# EAGLE library part XCV100_FG256 (library xilinx-xcv)
xcv100_fg256 edit this description Auto generated by make-symbol-device-package-bsdl.ulp Rev. 26 Source: xcv100_fg256.bsd
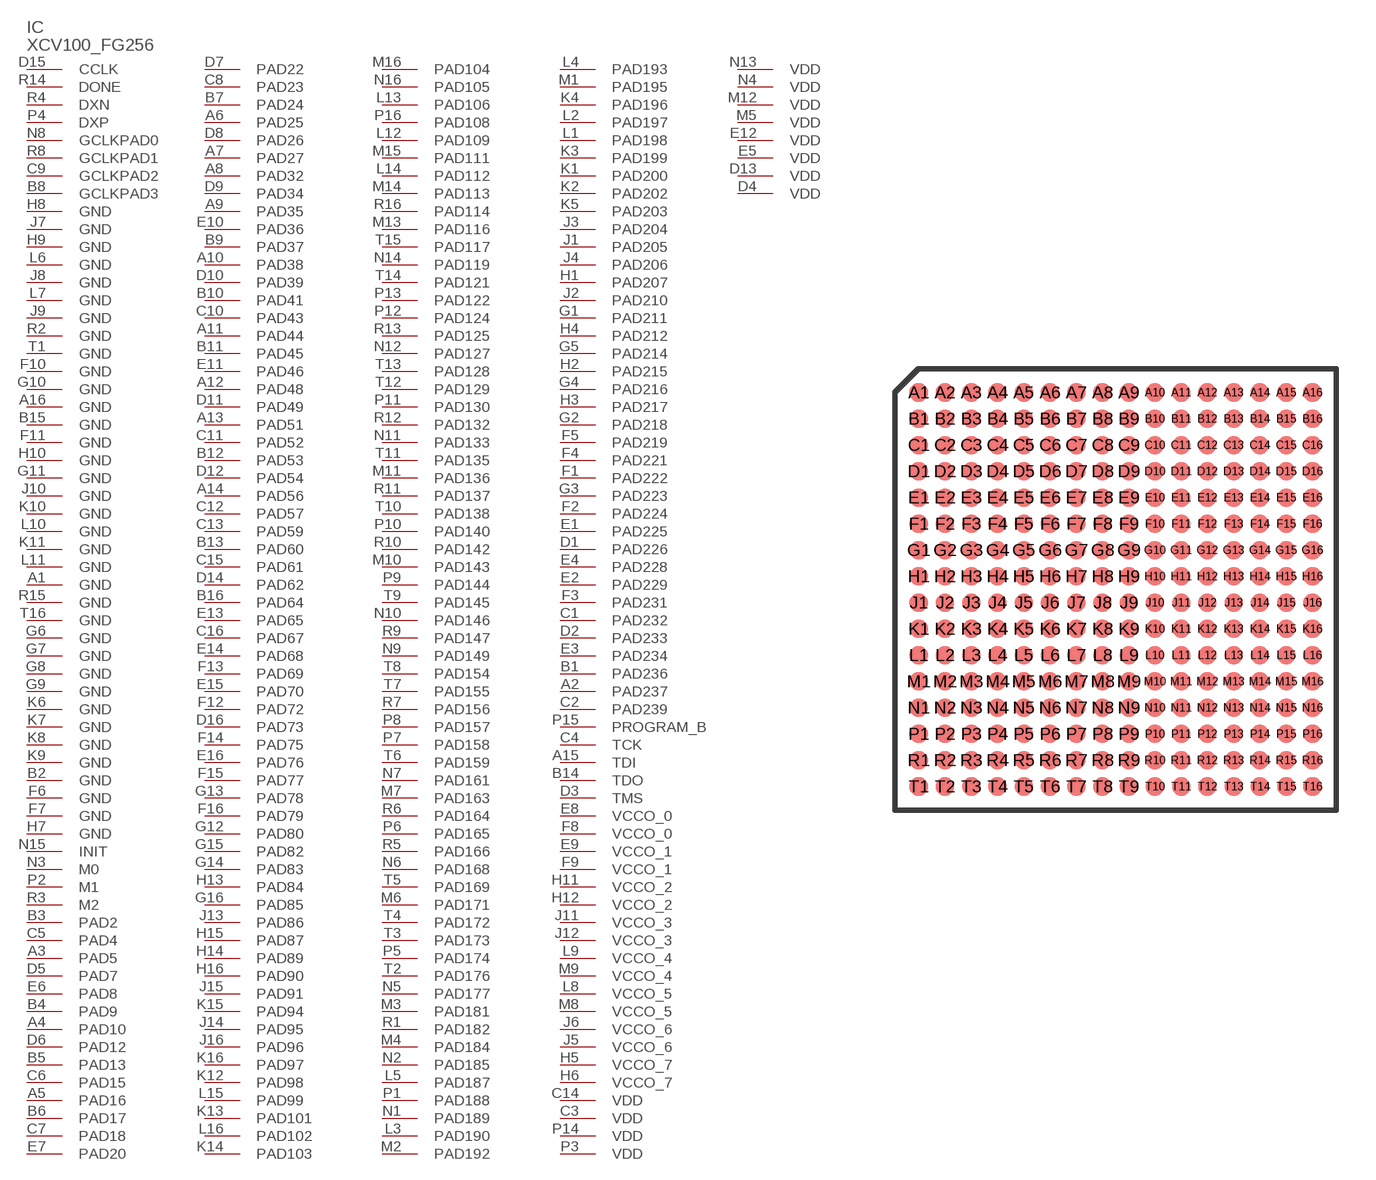
[diagram p2: symbol with the pads of FG256; footprint FG256]

Designator prefix IC

## XCV100_FG256  [FG256]
A1  GND  pwr
A2  PAD237
A3  PAD5
A4  PAD10
A5  PAD16
A6  PAD25
A7  PAD27
A8  PAD32
A9  PAD35
A10  PAD38
A11  PAD44
A12  PAD48
A13  PAD51
A14  PAD56
A15  TDI  in
A16  GND  pwr
B1  PAD236
B2  GND  pwr
B3  PAD2
B4  PAD9
B5  PAD13
B6  PAD17
B7  PAD24
B8  GCLKPAD3  in
B9  PAD37
B10  PAD41
B11  PAD45
B12  PAD53
B13  PAD60
B14  TDO  out
B15  GND  pwr
B16  PAD64
C1  PAD232
C2  PAD239
C3  VDD  pwr
C4  TCK  in
C5  PAD4
C6  PAD15
C7  PAD18
C8  PAD23
C9  GCLKPAD2  in
C10  PAD43
C11  PAD52
C12  PAD57
C13  PAD59
C14  VDD  pwr
C15  PAD61
C16  PAD67
D1  PAD226
D2  PAD233
D3  TMS  in
D4  VDD  pwr
D5  PAD7
D6  PAD12
D7  PAD22
D8  PAD26
D9  PAD34
D10  PAD39
D11  PAD49
D12  PAD54
D13  VDD  pwr
D14  PAD62
D15  CCLK
D16  PAD73
E1  PAD225
E2  PAD229
E3  PAD234
E4  PAD228
E5  VDD  pwr
E6  PAD8
E7  PAD20
E8  VCCO_0  pwr
E9  VCCO_1  pwr
E10  PAD36
E11  PAD46
E12  VDD  pwr
E13  PAD65
E14  PAD68
E15  PAD70
E16  PAD76
F1  PAD222
F2  PAD224
F3  PAD231
F4  PAD221
F5  PAD219
F6  GND  pwr
F7  GND  pwr
F8  VCCO_0  pwr
F9  VCCO_1  pwr
F10  GND  pwr
F11  GND  pwr
F12  PAD72
F13  PAD69
F14  PAD75
F15  PAD77
F16  PAD79
G1  PAD211
G2  PAD218
G3  PAD223
G4  PAD216
G5  PAD214
G6  GND  pwr
G7  GND  pwr
G8  GND  pwr
G9  GND  pwr
G10  GND  pwr
G11  GND  pwr
G12  PAD80
G13  PAD78
G14  PAD83
G15  PAD82
G16  PAD85
H1  PAD207
H2  PAD215
H3  PAD217
H4  PAD212
H5  VCCO_7  pwr
H6  VCCO_7  pwr
H7  GND  pwr
H8  GND  pwr
H9  GND  pwr
H10  GND  pwr
H11  VCCO_2  pwr
H12  VCCO_2  pwr
H13  PAD84
H14  PAD89
H15  PAD87
H16  PAD90
J1  PAD205
J2  PAD210
J3  PAD204
J4  PAD206
J5  VCCO_6  pwr
J6  VCCO_6  pwr
J7  GND  pwr
J8  GND  pwr
J9  GND  pwr
J10  GND  pwr
J11  VCCO_3  pwr
J12  VCCO_3  pwr
J13  PAD86
J14  PAD95
J15  PAD91
J16  PAD96
K1  PAD200
K2  PAD202
K3  PAD199
K4  PAD196
K5  PAD203
K6  GND  pwr
K7  GND  pwr
K8  GND  pwr
K9  GND  pwr
K10  GND  pwr
K11  GND  pwr
K12  PAD98
K13  PAD101
K14  PAD103
K15  PAD94
K16  PAD97
L1  PAD198
L2  PAD197
L3  PAD190
L4  PAD193
L5  PAD187
L6  GND  pwr
L7  GND  pwr
L8  VCCO_5  pwr
L9  VCCO_4  pwr
L10  GND  pwr
L11  GND  pwr
L12  PAD109
L13  PAD106
L14  PAD112
L15  PAD99
L16  PAD102
M1  PAD195
M2  PAD192
M3  PAD181
M4  PAD184
M5  VDD  pwr
M6  PAD171
M7  PAD163
M8  VCCO_5  pwr
M9  VCCO_4  pwr
M10  PAD143
M11  PAD136
M12  VDD  pwr
M13  PAD116
M14  PAD113
M15  PAD111
M16  PAD104
N1  PAD189
N2  PAD185
N3  M0  in
N4  VDD  pwr
N5  PAD177
N6  PAD168
N7  PAD161
N8  GCLKPAD0  in
N9  PAD149
N10  PAD146
N11  PAD133
N12  PAD127
N13  VDD  pwr
N14  PAD119
N15  INIT
N16  PAD105
P1  PAD188
P2  M1  in
P3  VDD  pwr
P4  DXP  pas
P5  PAD174
P6  PAD165
P7  PAD158
P8  PAD157
P9  PAD144
P10  PAD140
P11  PAD130
P12  PAD124
P13  PAD122
P14  VDD  pwr
P15  PROGRAM_B  in
P16  PAD108
R1  PAD182
R2  GND  pwr
R3  M2  in
R4  DXN  pas
R5  PAD166
R6  PAD164
R7  PAD156
R8  GCLKPAD1  in
R9  PAD147
R10  PAD142
R11  PAD137
R12  PAD132
R13  PAD125
R14  DONE
R15  GND  pwr
R16  PAD114
T1  GND  pwr
T2  PAD176
T3  PAD173
T4  PAD172
T5  PAD169
T6  PAD159
T7  PAD155
T8  PAD154
T9  PAD145
T10  PAD138
T11  PAD135
T12  PAD129
T13  PAD128
T14  PAD121
T15  PAD117
T16  GND  pwr

## Footprint FG256 (pad centres in mm)
Fine Pitch BGA (FG256) Auto generated by make-symbol-device-package-bsdl.ulp Rev. 26 Source: xcv100_fg256.bsd; fg256.pdf
smd 0.7 x 0.7: A1 -7.5,7.5; A2 -6.5,7.5; A3 -5.5,7.5; A4 -4.5,7.5; A5 -3.5,7.5; A6 -2.5,7.5; A7 -1.5,7.5; A8 -0.5,7.5; A9 0.5,7.5; A10 1.5,7.5; A11 2.5,7.5; A12 3.5,7.5; A13 4.5,7.5; A14 5.5,7.5; A15 6.5,7.5; A16 7.5,7.5; B1 -7.5,6.5; B2 -6.5,6.5; B3 -5.5,6.5; B4 -4.5,6.5; B5 -3.5,6.5; B6 -2.5,6.5; B7 -1.5,6.5; B8 -0.5,6.5; B9 0.5,6.5; B10 1.5,6.5; B11 2.5,6.5; B12 3.5,6.5; B13 4.5,6.5; B14 5.5,6.5; B15 6.5,6.5; B16 7.5,6.5; C1 -7.5,5.5; C2 -6.5,5.5; C3 -5.5,5.5; C4 -4.5,5.5; C5 -3.5,5.5; C6 -2.5,5.5; C7 -1.5,5.5; C8 -0.5,5.5; C9 0.5,5.5; C10 1.5,5.5; C11 2.5,5.5; C12 3.5,5.5; C13 4.5,5.5; C14 5.5,5.5; C15 6.5,5.5; C16 7.5,5.5; D1 -7.5,4.5; D2 -6.5,4.5; D3 -5.5,4.5; D4 -4.5,4.5; D5 -3.5,4.5; D6 -2.5,4.5; D7 -1.5,4.5; D8 -0.5,4.5; D9 0.5,4.5; D10 1.5,4.5; D11 2.5,4.5; D12 3.5,4.5; D13 4.5,4.5; D14 5.5,4.5; D15 6.5,4.5; D16 7.5,4.5; E1 -7.5,3.5; E2 -6.5,3.5; E3 -5.5,3.5; E4 -4.5,3.5; E5 -3.5,3.5; E6 -2.5,3.5; E7 -1.5,3.5; E8 -0.5,3.5; E9 0.5,3.5; E10 1.5,3.5; E11 2.5,3.5; E12 3.5,3.5; E13 4.5,3.5; E14 5.5,3.5; E15 6.5,3.5; E16 7.5,3.5; F1 -7.5,2.5; F2 -6.5,2.5; F3 -5.5,2.5; F4 -4.5,2.5; F5 -3.5,2.5; F6 -2.5,2.5; F7 -1.5,2.5; F8 -0.5,2.5; F9 0.5,2.5; F10 1.5,2.5; F11 2.5,2.5; F12 3.5,2.5; F13 4.5,2.5; F14 5.5,2.5; F15 6.5,2.5; F16 7.5,2.5; G1 -7.5,1.5; G2 -6.5,1.5; G3 -5.5,1.5; G4 -4.5,1.5; G5 -3.5,1.5; G6 -2.5,1.5; G7 -1.5,1.5; G8 -0.5,1.5; G9 0.5,1.5; G10 1.5,1.5; G11 2.5,1.5; G12 3.5,1.5; G13 4.5,1.5; G14 5.5,1.5; G15 6.5,1.5; G16 7.5,1.5; H1 -7.5,0.5; H2 -6.5,0.5; H3 -5.5,0.5; H4 -4.5,0.5; H5 -3.5,0.5; H6 -2.5,0.5; H7 -1.5,0.5; H8 -0.5,0.5; H9 0.5,0.5; H10 1.5,0.5; H11 2.5,0.5; H12 3.5,0.5; H13 4.5,0.5; H14 5.5,0.5; H15 6.5,0.5; H16 7.5,0.5; J1 -7.5,-0.5; J2 -6.5,-0.5; J3 -5.5,-0.5; J4 -4.5,-0.5; J5 -3.5,-0.5; J6 -2.5,-0.5; J7 -1.5,-0.5; J8 -0.5,-0.5; J9 0.5,-0.5; J10 1.5,-0.5; J11 2.5,-0.5; J12 3.5,-0.5; J13 4.5,-0.5; J14 5.5,-0.5; J15 6.5,-0.5; J16 7.5,-0.5; K1 -7.5,-1.5; K2 -6.5,-1.5; K3 -5.5,-1.5; K4 -4.5,-1.5; K5 -3.5,-1.5; K6 -2.5,-1.5; K7 -1.5,-1.5; K8 -0.5,-1.5; K9 0.5,-1.5; K10 1.5,-1.5; K11 2.5,-1.5; K12 3.5,-1.5; K13 4.5,-1.5; K14 5.5,-1.5; K15 6.5,-1.5; K16 7.5,-1.5; L1 -7.5,-2.5; L2 -6.5,-2.5; L3 -5.5,-2.5; L4 -4.5,-2.5; L5 -3.5,-2.5; L6 -2.5,-2.5; L7 -1.5,-2.5; L8 -0.5,-2.5; L9 0.5,-2.5; L10 1.5,-2.5; L11 2.5,-2.5; L12 3.5,-2.5; L13 4.5,-2.5; L14 5.5,-2.5; L15 6.5,-2.5; L16 7.5,-2.5; M1 -7.5,-3.5; M2 -6.5,-3.5; M3 -5.5,-3.5; M4 -4.5,-3.5; M5 -3.5,-3.5; M6 -2.5,-3.5; M7 -1.5,-3.5; M8 -0.5,-3.5; M9 0.5,-3.5; M10 1.5,-3.5; M11 2.5,-3.5; M12 3.5,-3.5; M13 4.5,-3.5; M14 5.5,-3.5; M15 6.5,-3.5; M16 7.5,-3.5; N1 -7.5,-4.5; N2 -6.5,-4.5; N3 -5.5,-4.5; N4 -4.5,-4.5; N5 -3.5,-4.5; N6 -2.5,-4.5; N7 -1.5,-4.5; N8 -0.5,-4.5; N9 0.5,-4.5; N10 1.5,-4.5; N11 2.5,-4.5; N12 3.5,-4.5; N13 4.5,-4.5; N14 5.5,-4.5; N15 6.5,-4.5; N16 7.5,-4.5; P1 -7.5,-5.5; P2 -6.5,-5.5; P3 -5.5,-5.5; P4 -4.5,-5.5; P5 -3.5,-5.5; P6 -2.5,-5.5; P7 -1.5,-5.5; P8 -0.5,-5.5; P9 0.5,-5.5; P10 1.5,-5.5; P11 2.5,-5.5; P12 3.5,-5.5; P13 4.5,-5.5; P14 5.5,-5.5; P15 6.5,-5.5; P16 7.5,-5.5; R1 -7.5,-6.5; R2 -6.5,-6.5; R3 -5.5,-6.5; R4 -4.5,-6.5; R5 -3.5,-6.5; R6 -2.5,-6.5; R7 -1.5,-6.5; R8 -0.5,-6.5; R9 0.5,-6.5; R10 1.5,-6.5; R11 2.5,-6.5; R12 3.5,-6.5; R13 4.5,-6.5; R14 5.5,-6.5; R15 6.5,-6.5; R16 7.5,-6.5; T1 -7.5,-7.5; T2 -6.5,-7.5; T3 -5.5,-7.5; T4 -4.5,-7.5; T5 -3.5,-7.5; T6 -2.5,-7.5; T7 -1.5,-7.5; T8 -0.5,-7.5; T9 0.5,-7.5; T10 1.5,-7.5; T11 2.5,-7.5; T12 3.5,-7.5; T13 4.5,-7.5; T14 5.5,-7.5; T15 6.5,-7.5; T16 7.5,-7.5